# EAGLE library part 25LC020AT-I/OT (library Microchip_By_element14_Batch_1)
2K SPI Bus Serial EEPROM
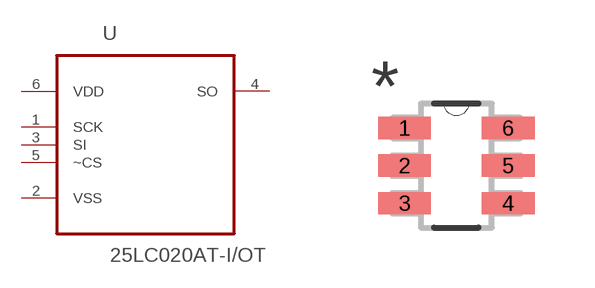
[diagram p136: symbol with the pads of SOT95P270X145-6N; footprint SOT95P270X145-6N]

Designator prefix -

## 25LC020AT-I/OT (MPN: 25LC020AT-I/OT; OC_FARNELL: 1331384; OC_NEWARK: 72J3674; PACKAGE: SOT-6; SUPPLIER: Microchip)  [SOT95P270X145-6N]
1  SCK  in
2  VSS  pwr
3  SI  in
4  SO  out
5  ~CS  in
6  VDD  pwr

## Footprint SOT95P270X145-6N (pad centres in mm)
smd 1.321 x 0.559: 1 -1.295,0.94; 2 -1.295,0; 3 -1.295,-0.94; 4 1.295,-0.94; 5 1.295,0; 6 1.295,0.94